# EAGLE library part H11L1S (library PEAC)
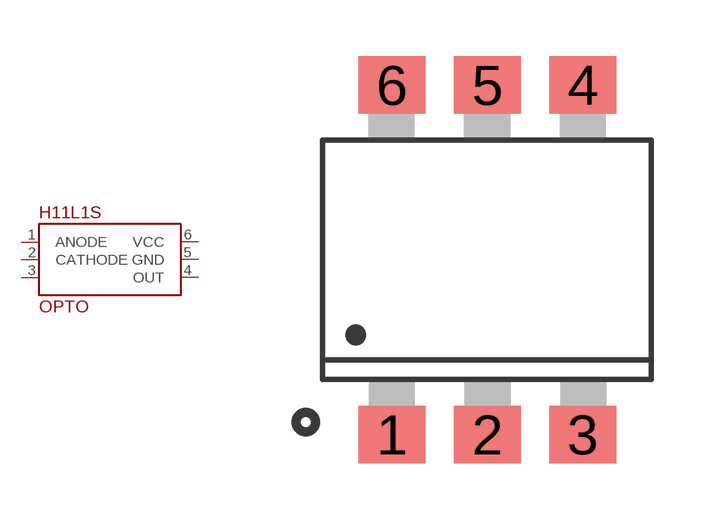
[diagram p19: symbol with the pads of DIL6-SMD; footprint DIL6-SMD]

Designator prefix OPTO

## H11L1SM  [DIL6-SMD]
1  ANODE
2  CATHODE
3
4  OUT
5  GND
6  VCC

## Footprint DIL6-SMD (pad centres in mm)
DIL 6 SMD Source: http://www.fairchildsemi.com/pf/4N/4N35-M.html
smd 1.78 x 1.52: 1 -2.54,-4.645; 2 0,-4.645; 3 2.54,-4.645; 4 2.54,4.645; 5 0,4.645; 6 -2.54,4.645